# Altium footprint library MOLEX_MICRO-FIT_430450200.PcbLib: 1 footprints
Each footprint in its own frame and in the unit in brackets; x right, y up, seen from the top. Pads: shape width x height; smd on the part's side, far side on the other; paste and mask are expansions set on the pad; w line width, h text height; cw(c..) or ccw(c..) is an arc to the next point about the centre after c.
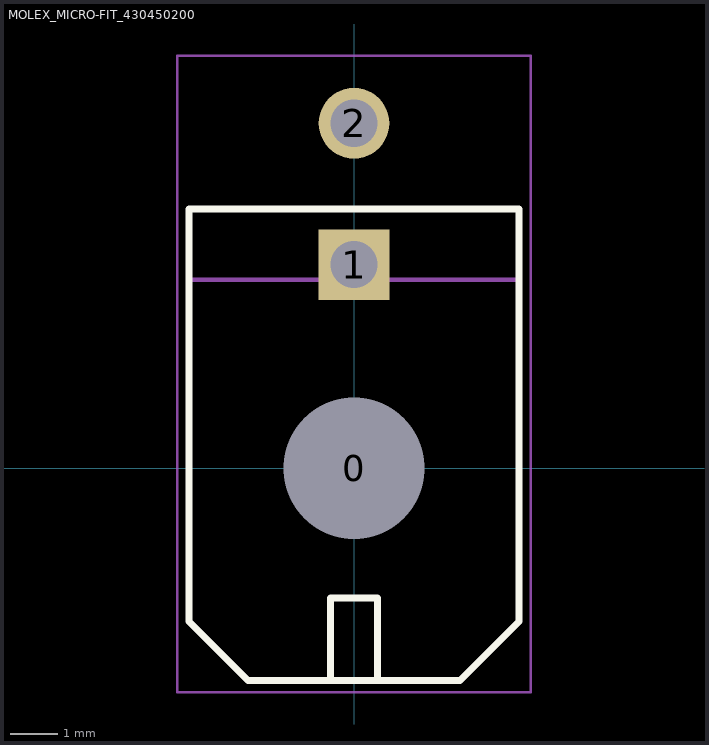
[diagram p0: the footprint, top view; thin cyan lines are the x and y axes]

## MOLEX_MICRO-FIT_430450200 [mm] "Molex MicroFit 3.0 2 pin connector"
height 8.77
pads (3):
  round 1 hole 3 unplated: 0(0,0)
  rect 1.5x1.5 hole 1: 1(0,4.32)
  round 1.5 hole 1: 2(0,7.32)
Top Overlay:
  lines w0.15: -0.5,-4.5 -0.5,-2.75 0.5,-2.75 0.5,-4.5 ; -3.5,-3.25 -3.5,5.5 3.5,5.5 3.5,-3.25 2.25,-4.5 -2.25,-4.5 -3.5,-3.25
Top Assembly:
  lines w0.1: -0.5,-4.5 -0.5,-2.75 0.5,-2.75 0.5,-4.5 ; -3.5,5.5 -3.5,4 3.5,4 3.5,5.5 ; -3.5,5.5 3.5,5.5 ; -3.5,5.5 -3.5,-3.25 -2.25,-4.5 2.25,-4.5 3.5,-3.25 3.5,5.5
Top Component Outline (Mech15):
  lines w0.05: -3.75,-4.75 -3.75,8.75 3.75,8.75 3.75,7.5 3.75,-4.75 -3.75,-4.75
Top Designator:
  text "'.Designator'" at -2,2.2 h1
3D body "430450200.stp": height 8.93, standoff -3.02, extent -3.575,-4.575 3.575,7.665